# Altium footprint library USB Micro 90.PcbLib: 1 footprints
Each footprint in its own frame and in the unit in brackets; x right, y up, seen from the top. Pads: shape width x height; smd on the part's side, far side on the other; paste and mask are expansions set on the pad; w line width, h text height; cw(c..) or ccw(c..) is an arc to the next point about the centre after c.
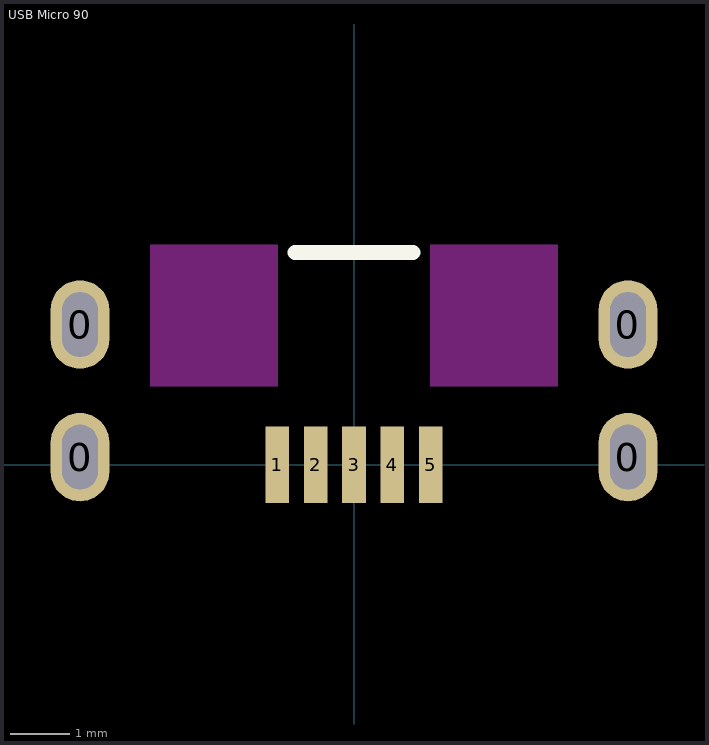
[diagram p0: the footprint, top view; thin cyan lines are the x and y axes]

## USB Micro 90 [mm]
height 9.906
pads (9):
  oval 1x1.5 hole 0.6 slot 1.1 at 90 deg: 0(-4.65,0.13) 0(-4.65,2.38) 0(4.65,0.13) 0(4.65,2.38)
  rect 0.4x1.3 smd: 1(-1.3,0) 2(-0.65,0) 3(0,0) 4(0.65,0) 5(1.3,0)
TopOverlay:
  lines w0.254: -1,3.6 1,3.6
KeepOutLayer:
  board cut-out: -1.295,1.33 -3.455,1.33 -3.455,3.73 -1.295,3.73
  board cut-out: 1.295,1.33 3.455,1.33 3.455,3.73 1.295,3.73
3D body: height 2.9, standoff -0.73, extent -4.8,-0.418 4.8,4.668